# Altium schematic symbol library balenaPerf schlib.SchLib: 6 symbols
Pins are listed as number, name and electrical type; pins without a type are passive.

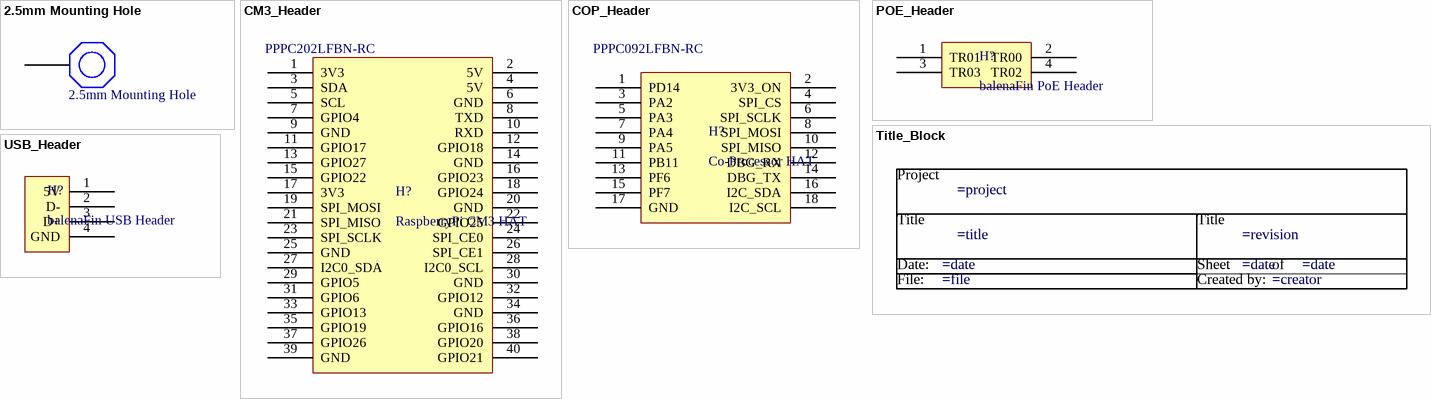
[diagram p0: symbols 2.5mm Mounting Hole to USB_Header]

## 2.5mm Mounting Hole
designator *1  (no BOM)
footprint 2.5mm Mounting Hole
pins: 1

## CM3_Header
designator H?, comment RaspberryPi CM3 HAT  Supplier Part Number 1: PPPC202LFBN-RC
Raspberry Pi CM3 HAT Socket; Manufacturer: Sullins; Number of Positions: 40; Connector Type: Header,Socket; Pitch: 0.1inch; Supplier 1: Future Electronics; Manufacturer Part Number: PPPC202LFBN-RC; Stock 1: 0; Mount: Through Hole; Color: Black; Contact Plating: Gold; Contact Material: Bronze; Housing Material: Plastic; Package Quantity: 1000; Number of Rows: 2; Packaging: Bulk; Termination: Solder; Length: 51.3mm; Height: 8.5mm; Row Spacing: 0.1inch; Width: 5mm; Lead Free: Lead Free
footprint HDR2x20_2mm54 (Female Header 2x20 pin 2.54mm spacing)
pins: 1 3V3, 2 5V, 3 SDA, 4 5V, 5 SCL, 6 GND, 7 GPIO4, 8 TXD, 9 GND, 10 RXD, 11 GPIO17, 12 GPIO18, 13 GPIO27, 14 GND, 15 GPIO22, 16 GPIO23, 17 3V3, 18 GPIO24, 19 SPI_MOSI, 20 GND, 21 SPI_MISO, 22 GPIO25, 23 SPI_SCLK, 24 SPI_CE0, 25 GND, 26 SPI_CE1, 27 I2C0_SDA, 28 I2C0_SCL, 29 GPIO5, 30 GND, 31 GPIO6, 32 GPIO12, 33 GPIO13, 34 GND, 35 GPIO19, 36 GPIO16, 37 GPIO26, 38 GPIO20, 39 GND, 40 GPIO21

## COP_Header
designator H?, comment Co-Processor HAT  Manufacturer Part Number: PPPC092LFBN-RC
balenaFin Co-Processor HAT Socket; Manufacturer: Sullins; Number of Positions: 18; Connector Type: Header,Socket; Pitch: 0.1inch; Supplier 1: Future Electronics; Stock 1: 0; Mount: Through Hole; Color: Black; Contact Plating: Gold; Contact Material: Bronze; Housing Material: Plastic; Package Quantity: 1000; Number of Rows: 2; Packaging: Bulk; Termination: Solder; Length: 23.4mm; Height: 8.5mm; Row Spacing: 0.1inch; Width: 5mm; Lead Free: Lead Free; Supplier Part Number 1: PPPC092LFBN-RC
footprint HDR2x9_2mm54 (Female Header 2x9 pin 2.54mm spacing)
pins: 1 PD14, 2 3V3_ON, 3 PA2, 4 SPI_CS, 5 PA3, 6 SPI_SCLK, 7 PA4, 8 SPI_MOSI, 9 PA5, 10 SPI_MISO, 11 PB11, 12 DBG_RX, 13 PF6, 14 DBG_TX, 15 PF7, 16 I2C_SDA, 17 GND, 18 I2C_SCL

## POE_Header
designator H?, comment balenaFin PoE Header
Manufacturer: Sullins; Manufacturer Part Number: PPPC022LFBN-RC; Number of Positions: 4; Connector Type: Header,Socket; Pitch: 0.1inch; Supplier 1: Future Electronics; Stock 1: 0; Mount: Through Hole; Color: Black; Contact Plating: Gold; Contact Material: Bronze; Housing Material: Plastic; Package Quantity: 1000; Number of Rows: 2; Packaging: Bulk; Termination: Solder; Length: 5.58mm; Height: 8.5mm; Row Spacing: 0.1inch; Width: 5mm; Lead Free: Lead Free; Supplier Part Number 1: PPPC022LFBN-RC
footprint HDR2x2_2mm54 (Female Header 2x2 pin 2.54mm spacing)
pins: 1 TR01, 2 TR00, 3 TR03, 4 TR02

## Title_Block
designator *  (value not drawn)  (graphical)
text: Project; Title; Date:; Sheet; of; File:; Created by:

## USB_Header
designator H?, comment balenaFin USB Header
Manufacturer: Sullins; Manufacturer Part Number: PPPC041LFBN-RC; Number of Positions: 4; Connector Type: Header,Socket; Pitch: 0.1inch; Supplier 1: Future Electronics; Stock 1: 0; Mount: Through Hole; Color: Black; Contact Plating: Gold; Contact Material: Bronze; Housing Material: Plastic; Package Quantity: 1000; Number of Rows: 1; Packaging: Bulk; Termination: Solder; Length: 10.7mm; Height: 8.5mm; Width: 2.5mm; Lead Free: Lead Free; Supplier Part Number 1: 6009019
footprint HDR1x4_2mm54 (Female Header 1x4 pin 2.54mm spacing)
pins: 1 5V, 2 D-, 3 D+, 4 GND